# EAGLE library part LT1014 (library SparkFun-AnalogIC)
Precision quad op-amp. I/O range includes negative rail.
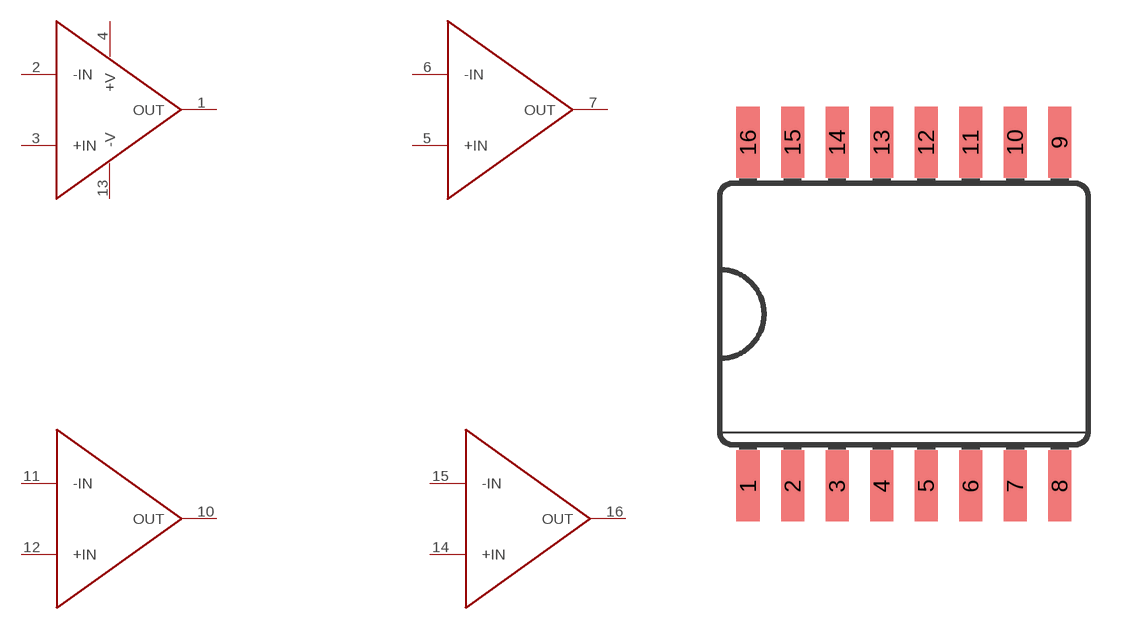
[diagram p32: symbol with the pads of SO16L; footprint SO16L]

Designator prefix -; gates G1=LT1014 G2=LT1014_2 G3=LT1014_2 G4=LT1014_2

## LT1014  [SO16L]
1  G1:OUT  out
2  G1:-IN  in
3  G1:+IN  in
4  G1:+V  pwr
5  G2:+IN  pwr
6  G2:-IN  pwr
7  G2:OUT  pwr
10  G3:OUT  pwr
11  G3:-IN  pwr
12  G3:+IN  pwr
13  G1:-V  pwr
14  G4:+IN  pwr
15  G4:-IN  pwr
16  G4:OUT  pwr

## Footprint SO16L (pad centres in mm)
Small Outline Package .300 SIOC Source: http://www.maxim-ic.com/cgi-bin/packages?pkg=16%2FSOIC%2E300&Type=Max
smd 0.66 x 2.032: 1 -4.445,-4.902; 2 -3.175,-4.902; 3 -1.905,-4.902; 4 -0.635,-4.902; 5 0.635,-4.902; 6 1.905,-4.902; 7 3.175,-4.902; 8 4.445,-4.902; 9 4.445,4.902; 10 3.175,4.902; 11 1.905,4.902; 12 0.635,4.902; 13 -0.635,4.902; 14 -1.905,4.902; 15 -3.175,4.902; 16 -4.445,4.902